# EAGLE library part 691300700024 (library Terminal_Blocks_Connectors_rev15e)
WR-TBL Serie 300 - 5.0mm Pin Header , 24 Pins=>Code : Con_TBL_Pluggable_5.00_PCB_V_Pin_Header_691300700024 <http://katalog.we-online.de/media/images/eican/Con_TBL_Pluggable_5.00_PCB_V_Pin_Header_691300700024_pf2.jpg> Details see: http://katalog.we-online.de/en/em/691_300_700_024 Created 2014-06-19, Karrer Zheng 2014 (C) Würth Elektronik
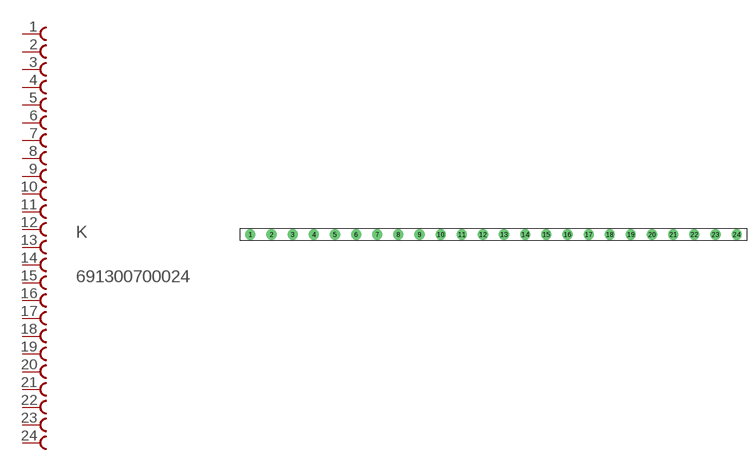
[diagram p59: symbol with the pads of 691300700024; footprint 691300700024]

Designator prefix K

## 691300700024  [691300700024]
1  1  pas
2  2  pas
3  3  pas
4  4  pas
5  5  pas
6  6  pas
7  7  pas
8  8  pas
9  9  pas
10  10  pas
11  11  pas
12  12  pas
13  13  pas
14  14  pas
15  15  pas
16  16  pas
17  17  pas
18  18  pas
19  19  pas
20  20  pas
21  21  pas
22  22  pas
23  23  pas
24  24  pas

## Footprint 691300700024 (pad centres in mm)
WR-TBL Serie 300 - 5.0mm Pin Header , 24 Pins
drill 1.6: 1 -40,0; 2 -35,0; 3 -30,0; 4 -25,0; 5 -20,0; 6 -15,0; 7 -10,0; 8 -5,0; 9 0,0; 10 5,0; 11 10,0; 12 15,0; 13 20,0; 14 25,0; 15 30,0; 16 35,0; 17 40,0; 18 45,0; 19 50,0; 20 55,0; 21 60,0; 22 65,0; 23 70,0; 24 75,0